# EAGLE library part CDC3RL02 (library ti_2020)
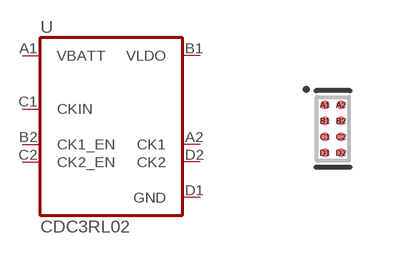
[diagram p1: symbol with the pads of DBGA8; footprint DBGA8]

Designator prefix -

## CDC3RL02  [DBGA8]
A1  VBATT  pwr
A2  CK1  out
B1  VLDO  pwr
B2  CK1_EN  out
C1  CKIN  out
C2  CK2_EN  out
D1  GND  out
D2  CK2  out

## Footprint DBGA8 (pad centres in mm)
smd 0.23 x 0.23: A1 -0.2,0.6; A2 0.2,0.6; B1 -0.2,0.2; B2 0.2,0.2; C1 -0.2,-0.2; C2 0.2,-0.2; D1 -0.2,-0.6; D2 0.2,-0.6